# Altium footprint library robopoly.PCBLIB: 53 footprints (part 2 of 4)
Each footprint in its own frame and in the unit in brackets; x right, y up, seen from the top. Pads: shape width x height; smd on the part's side, far side on the other; paste and mask are expansions set on the pad; w line width, h text height; cw(c..) or ccw(c..) is an arc to the next point about the centre after c.
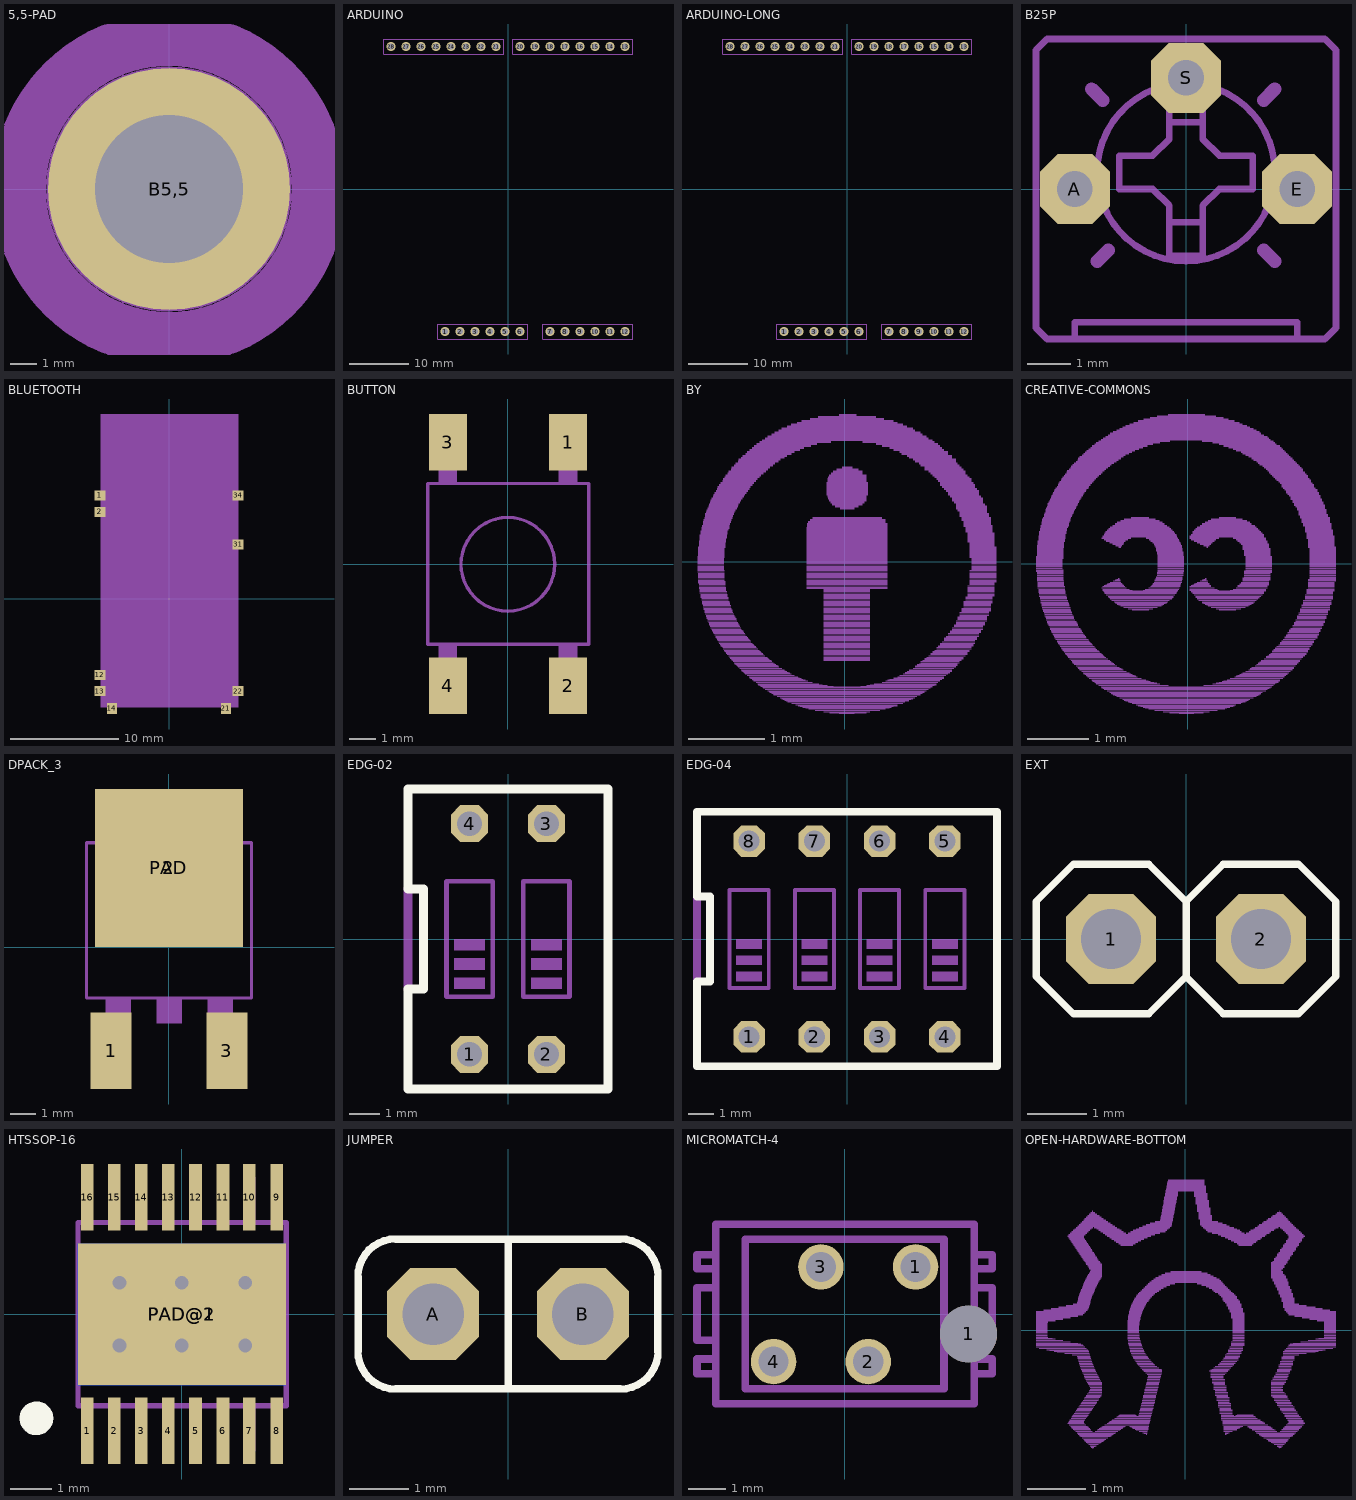
[diagram p1: the footprints below, top view; thin cyan lines are the x and y axes]

## 5,5-PAD [mil]
pads (1):
  round 355 hole 217: B5,5(0,0)
Top Overlay:
  circle w6: c0,0 r113
Mechanical 10:
  circle w79: c0,0 r220
Mechanical 16:
  circle w18: c0,0 r30
  circle w6: c0,0 r177
  lines w154: -100,0 ccw(c0,0) 0,-100 ; 0,100 cw(c0,0) 100,0
Mechanical 27:
  circle w79: c0,0 r220
Mechanical 28:
  circle w79: c0,0 r220

## ARDUINO [mil]
pads (28):
  round 60 hole 40: 1(-420,-950) 2(-320,-950) 3(-220,-950) 4(-120,-950) 5(-20,-950) 6(80,-950) 7(280,-950) 8(380,-950) 9(480,-950) 10(580,-950) 11(680,-950) 12(780,-950) 13(780,950) 14(680,950) 15(580,950) 16(480,950) 17(380,950) 18(280,950) 19(180,950) 20(80,950) 21(-80,950) 22(-180,950) 23(-280,950) 24(-380,950) 25(-480,950) 26(-580,950) 27(-680,950) 28(-780,950)
Mechanical 16:
  rectangle: 770,-960 790,-940
  rectangle: 670,-960 690,-940
  rectangle: 570,-960 590,-940
  rectangle: 470,-960 490,-940
  rectangle: 370,-960 390,-940
  rectangle: 270,-960 290,-940
  rectangle: 70,-960 90,-940
  rectangle: -30,-960 -10,-940
  rectangle: -130,-960 -110,-940
  rectangle: -230,-960 -210,-940
  rectangle: -330,-960 -310,-940
  rectangle: -430,-960 -410,-940
  rectangle: -790,940 -770,960
  rectangle: -690,940 -670,960
  rectangle: -590,940 -570,960
  rectangle: -490,940 -470,960
  rectangle: -390,940 -370,960
  rectangle: -290,940 -270,960
  rectangle: -190,940 -170,960
  rectangle: -90,940 -70,960
  rectangle: 770,940 790,960
  rectangle: 670,940 690,960
  rectangle: 570,940 590,960
  rectangle: 470,940 490,960
  rectangle: 370,940 390,960
  rectangle: 270,940 290,960
  rectangle: 170,940 190,960
  rectangle: 70,940 90,960
  lines w5: -830,900 -830,1000 -30,1000 -30,900 -830,900 ; -470,-1000 -470,-900 130,-900 130,-1000 -470,-1000 ; 30,900 30,1000 830,1000 830,900 30,900 ; 230,-1000 830,-1000 830,-900 230,-900 230,-1000

## ARDUINO-LONG [mil]
pads (28):
  round 60 hole 40: 1(-420,-950) 2(-320,-950) 3(-220,-950) 4(-120,-950) 5(-20,-950) 6(80,-950) 7(280,-950) 8(380,-950) 9(480,-950) 10(580,-950) 11(680,-950) 12(780,-950) 13(780,950) 14(680,950) 15(580,950) 16(480,950) 17(380,950) 18(280,950) 19(180,950) 20(80,950) 21(-80,950) 22(-180,950) 23(-280,950) 24(-380,950) 25(-480,950) 26(-580,950) 27(-680,950) 28(-780,950)
Mechanical 16:
  rectangle: 770,-960 790,-940
  rectangle: 670,-960 690,-940
  rectangle: 570,-960 590,-940
  rectangle: 470,-960 490,-940
  rectangle: 370,-960 390,-940
  rectangle: 270,-960 290,-940
  rectangle: 70,-960 90,-940
  rectangle: -30,-960 -10,-940
  rectangle: -130,-960 -110,-940
  rectangle: -230,-960 -210,-940
  rectangle: -330,-960 -310,-940
  rectangle: -430,-960 -410,-940
  rectangle: -790,940 -770,960
  rectangle: -690,940 -670,960
  rectangle: -590,940 -570,960
  rectangle: -490,940 -470,960
  rectangle: -390,940 -370,960
  rectangle: -290,940 -270,960
  rectangle: -190,940 -170,960
  rectangle: -90,940 -70,960
  rectangle: 770,940 790,960
  rectangle: 670,940 690,960
  rectangle: 570,940 590,960
  rectangle: 470,940 490,960
  rectangle: 370,940 390,960
  rectangle: 270,940 290,960
  rectangle: 170,940 190,960
  rectangle: 70,940 90,960
  lines w5: -830,900 -830,1000 -30,1000 -30,900 -830,900 ; -470,-1000 -470,-900 130,-900 130,-1000 -470,-1000 ; 30,900 30,1000 830,1000 830,900 30,900 ; 230,-1000 830,-1000 830,-900 230,-900 230,-1000

## B25P [mil]
pads (3):
  oct 63x63 hole 32: A(-100,0) E(100,0) S(0,100)
Mechanical 16:
  circle w6: c0,15 r80
  lines w6: -100,-135 -25,-135 25,-135 100,-135 ; -100,-135 -100,-120 -40,-120 40,-120 100,-120 100,-135 ; -100,-135 -125,-135 -135,-125 -135,-60 -135,-10 -135,125 -125,135 125,135 135,125 135,-10 135,-60 135,-125 125,-135 100,-135 ; -15,-30 -15,-60 15,-60 15,-30 ; -15,-30 15,-30 ; -15,-30 -15,-15 -30,0 -60,0 -60,30 -30,30 -15,45 -15,60 ; -15,60 15,60 ; -15,60 -15,90 15,90 15,60 ; 15,-30 15,-15 30,0 60,0 60,30 30,30 15,45 15,60
  lines w12: -109,15 -94,15 ; -85,90 -75,80 ; -80,-65 -70,-55 ; 0,107 0,122 ; 70,-55 80,-65 ; 70,80 80,90 ; 94,15 109,15
  text "1" at -115,-110 h60.45
  text "3" at 95,-110 h60.45

## BLUETOOTH [mil]
pads (9):
  rect 40x36 smd: 1(-251.97,375) 2(-251.97,315) 12(-251.97,-275.59) 13(-251.97,-334.65) 22(249,-334.65) 31(249,197) 34(249,375)
  rect 36x40 smd: 14(-208.66,-397.64) 21(205,-397.64)
Mechanical 16:
  rectangle: -250,-393.7 250,670

## BUTTON [mil]
pads (4):
  rect 56x83 smd: 1(89,180) 2(89,-179.13) 3(-88.58,180) 4(-88.58,-179.13)
Mechanical 16:
  circle w5: c0,0 r69
  rectangle: -102.36,-196.85 -74.8,-118.11
  rectangle: 75,119 103,197
  rectangle: 75,-196.85 103,-118.11
  rectangle: -102.36,119 -74.8,197
  lines w5: -118.11,-118.11 -118.11,119 119,119 119,-118.11 -118.11,-118.11

## BY [mil]
Bottom Overlay:
  drawing of 936 lines, arcs and shapes, not listed

## CREATIVE-COMMONS [mil]
Bottom Overlay:
  drawing of 997 lines, arcs and shapes, not listed

## DPACK_3 [mil]
pads (4):
  rect 63x119 smd: 1(-89.96,-160.63) 3(90,-160.63)
  rect 229x245 smd: 2(0,123)
  rect 229x245 smd far side: PAD(0,123)
Mechanical 16:
  rectangle: -19.68,-118.11 20,-78.74
  rectangle: -98.43,-157.48 -59.06,-78.74
  rectangle: 60,-157.48 99,-78.74
  lines w5: -98.43,162 -127.95,162 -127.95,-78.74 128,-78.74 128,162 99,162 ; -98.43,162 99,162 ; -98.43,162 -98.43,178 -78.74,197 79,197 99,178 99,162

## EDG-02 [mil]
pads (4):
  oct 48x48 hole 32: 1(-50,-150) 2(50,-150) 3(50,150) 4(-50,150)
Top Overlay:
  lines w12: -130,-195 130,-195 130,195 -130,195 -130,65 -110,65 -110,-65 -130,-65 -130,-195
Mechanical 16:
  rectangle: 30,-15 70,0
  rectangle: 30,-40 70,-25
  rectangle: 30,-65 70,-50
  rectangle: -70,-15 -30,0
  rectangle: -70,-40 -30,-25
  rectangle: -70,-65 -30,-50
  lines w6: -80,-75 -80,75 -20,75 -20,-75 -80,-75 ; 20,-75 20,75 80,75 80,-75 20,-75
  lines w12: -130,-65 -130,65
  text "1" at -60,-165 h93
  text "ON" at -100,100 h93
  text "2" at 30,-165 h93

## EDG-04 [mil]
pads (8):
  oct 48x48 hole 32: 1(-150,-150) 2(-50,-150) 3(50,-150) 4(150,-150) 5(150,150) 6(50,150) 7(-50,150) 8(-150,150)
Top Overlay:
  lines w12: -230,-195 230,-195 230,-65 230,65 230,195 -230,195 -230,65 -210,65 -210,-65 -230,-65 -230,-195
Mechanical 16:
  rectangle: 130,-15 170,0
  rectangle: 130,-40 170,-25
  rectangle: 130,-65 170,-50
  rectangle: 30,-15 70,0
  rectangle: 30,-40 70,-25
  rectangle: 30,-65 70,-50
  rectangle: -70,-15 -30,0
  rectangle: -70,-40 -30,-25
  rectangle: -70,-65 -30,-50
  rectangle: -170,-15 -130,0
  rectangle: -170,-40 -130,-25
  rectangle: -170,-65 -130,-50
  lines w6: -180,-75 -180,75 -120,75 -120,-75 -180,-75 ; -80,-75 -80,75 -20,75 -20,-75 -80,-75 ; 20,-75 20,75 80,75 80,-75 20,-75 ; 120,-75 120,75 180,75 180,-75 120,-75
  lines w12: -230,-65 -230,65
  text "1" at -160,-165 h93
  text "ON" at -200,100 h93
  text "2" at -70,-165 h93
  text "3" at 30,-165 h93
  text "4" at 130,-165 h93
  text "EDG" at 50,100 h93

## EXT [mil]
pads (2):
  oct 60x60 hole 40: 1(-50,0) 2(50,0)
Top Overlay:
  lines w5: 0,-25 0,25 ; 0,-25 25,-50 75,-50 100,-25 100,25 75,50 25,50 0,25 ; 0,-25 -25,-50 -75,-50 -100,-25 -100,25 -75,50 -25,50 0,25

## HTSSOP-16 [mil]
pads (24):
  rect 12x63 smd: 1(-89.57,-110.24) 2(-63.98,-110.24) 3(-38.39,-110.24) 4(-12.8,-110.24) 5(13,-110.24) 6(39,-110.24) 7(64,-110.24) 8(90,-110.24) 9(90,111) 10(64,111) 11(39,111) 12(13,111) 13(-12.8,111) 14(-38.39,111) 15(-63.98,111) 16(-89.57,111)
  rect 197x134 smd: PAD@1(0,0)
  rect 197x134 smd far side: PAD@2(0,0)
  round 19.5 hole 13: PAD@3(-59.06,30) PAD@4(0,30) PAD@5(60,30) PAD@6(-59.06,-29.53) PAD@7(0,-29.53) PAD@8(60,-29.53)
Top Overlay:
  circle w16: c-137.8,-98.43 r8
Top Paste:
  rectangle: -45.47,-48.43 46,49
  rectangle: 8,80 18,141
  rectangle: 34,80 44,141
  rectangle: 60,80 69,141
  rectangle: 85,80 95,141
  rectangle: -17.72,80 -7.87,141
  rectangle: -43.31,80 -33.46,141
  rectangle: -68.9,80 -59.06,141
  rectangle: -94.49,80 -84.65,141
  rectangle: -94.49,-140.75 -84.65,-79.72
  rectangle: -68.9,-140.75 -59.06,-79.72
  rectangle: -43.31,-140.75 -33.46,-79.72
  rectangle: -17.72,-140.75 -7.87,-79.72
  rectangle: 8,-140.75 18,-79.72
  rectangle: 34,-140.75 44,-79.72
  rectangle: 60,-140.75 69,-79.72
  rectangle: 85,-140.75 95,-79.72
Top Solder:
  rectangle: -45.47,-48.43 46,49
Mechanical 16:
  rectangle: 8,87 18,130
  rectangle: 34,87 44,130
  rectangle: 60,87 70,130
  rectangle: 85,87 95,130
  rectangle: -17.72,87 -7.76,130
  rectangle: -43.31,87 -33.35,130
  rectangle: -68.9,87 -58.94,130
  rectangle: -94.49,87 -84.53,130
  rectangle: 8,-129.92 18,-86.61
  rectangle: 34,-129.92 44,-86.61
  rectangle: 60,-129.92 70,-86.61
  rectangle: 85,-129.92 95,-86.61
  rectangle: -17.72,-129.92 -7.76,-86.61
  rectangle: -43.31,-129.92 -33.35,-86.61
  rectangle: -68.9,-129.92 -58.94,-86.61
  rectangle: -94.49,-129.92 -84.53,-86.61
  lines w5: -98.43,-86.61 99,-86.61 99,87 -98.43,87 -98.43,-86.61

## JUMPER [mil]
pads (2):
  oct 61.5x61.5 hole 41: A(-50,0) B(50,0)
Top Overlay:
  lines w5: 0,-50 75,-50 ccw(c75,-25) 100,-25 100,25 ccw(c75,25) 75,50 0,50 ; 0,-50 -75,-50 cw(c-75,-25) -100,-25 -100,25 cw(c-75,25) -75,50 0,50 ; 0,-50 0,50

## MICROMATCH-4 [mil]
pads (5):
  round 48 hole 32: 1(75,50) 2(25,-50) 3(-25,50) 4(-75,-50)
  round 60 hole 60: 1(131,-20.87)
Mechanical 16:
  lines w8: -140.16,-62.99 -155.91,-62.99 -155.91,-47.24 -140.16,-47.24 ; -140.16,-27.56 -155.91,-27.56 -155.91,28 -140.16,28 ; -140.16,48 -155.91,48 -155.91,63 -140.16,63 ; 141,-62.99 156,-62.99 156,-47.24 141,-47.24 ; 141,-27.56 156,-27.56 156,28 141,28 ; 141,48 156,48 156,63 141,63 ; -136.22,-94.49 -136.22,95 137,95 137,-94.49 -136.22,-94.49 ; -104.72,-78.74 -104.72,79 105,79 105,-78.74 -104.72,-78.74

## OPEN-HARDWARE-BOTTOM [mil]
Bottom Overlay:
  drawing of 3189 lines, arcs and shapes, not listed